# EAGLE library part LM324MX (library Fairchild_By_element14_Batch_1)
Quad Operational Amplifier
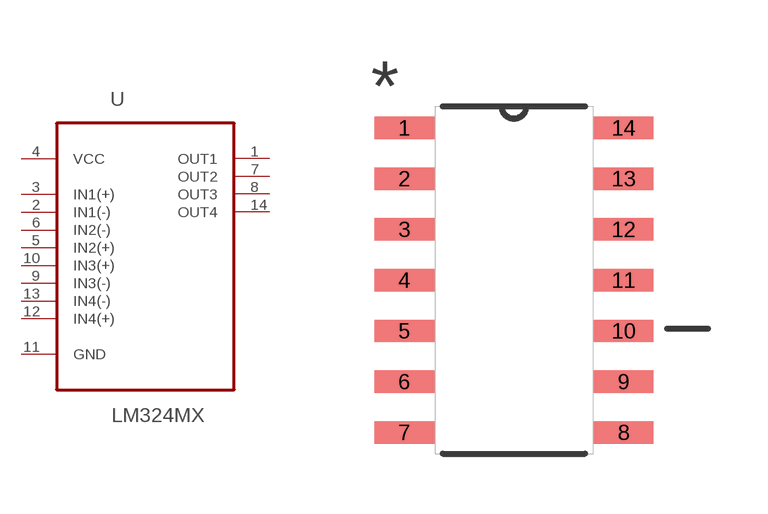
[diagram p208: symbol with the pads of SOIC127P600X180-14N; footprint SOIC127P600X180-14N]

Designator prefix U

## LM324MX (MPN: LM324MX; OC_FARNELL: -; OC_NEWARK: 38C7346; PACKAGE: SOIC-14; SUPPLIER: Fairchild)  [SOIC127P600X180-14N]
1  OUT1  out
2  IN1(-)  in
3  IN1(+)  in
4  VCC  pwr
5  IN2(+)  in
6  IN2(-)  in
7  OUT2  out
8  OUT3  out
9  IN3(-)  in
10  IN3(+)  in
11  GND  pas
12  IN4(+)  in
13  IN4(-)  in
14  OUT4  out

## Footprint SOIC127P600X180-14N (pad centres in mm)
smd 1.499 x 0.559: 1 -2.743,3.81; 2 -2.743,2.54; 3 -2.743,1.27; 4 -2.743,0; 5 -2.743,-1.27; 6 -2.743,-2.54; 7 -2.743,-3.81; 8 2.743,-3.81; 9 2.743,-2.54; 10 2.743,-1.27; 11 2.743,0; 12 2.743,1.27; 13 2.743,2.54; 14 2.743,3.81